# Altium footprint library 1210С.PcbLib: 1 footprints
Each footprint in its own frame and in the unit in brackets; x right, y up, seen from the top. Pads: shape width x height; smd on the part's side, far side on the other; paste and mask are expansions set on the pad; w line width, h text height; cw(c..) or ccw(c..) is an arc to the next point about the centre after c.
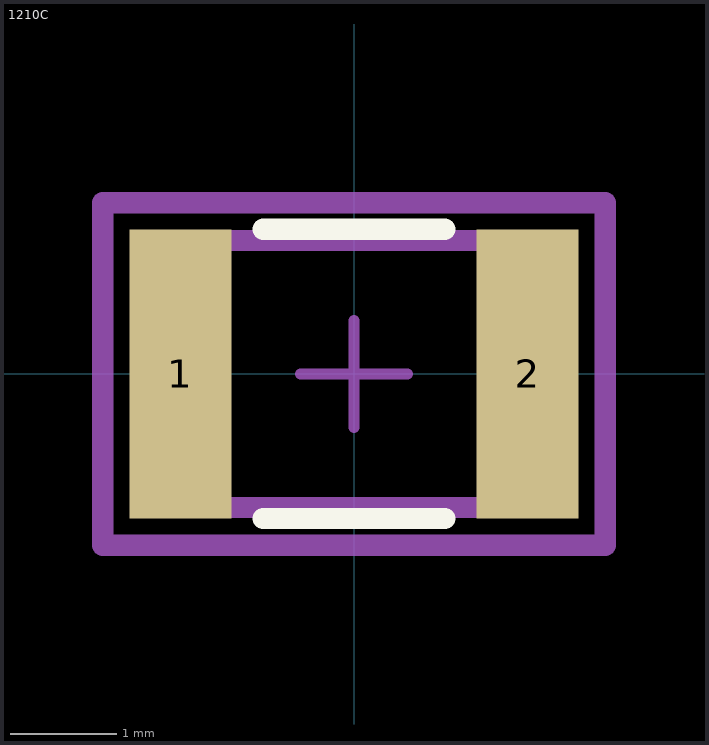
[diagram p0: the footprint, top view; thin cyan lines are the x and y axes]

## 1210С [mm]
pads (2):
  rect 0.954x2.706 smd paste+0 mask+0: 1(-1.625,0) 2(1.625,0)
Top Overlay:
  lines w0.2: -0.848,-1.353 0.848,-1.353 ; -0.848,1.353 0.848,1.353
Mechanical 5:
  lines w0.2: -2.352,-1.603 -2.352,1.603 2.352,1.603 2.352,-1.603 -2.352,-1.603
  text ".Designator" at 0,0.188 h1
Mechanical 13:
  lines w0.2: -1.6,-1.25 -1.6,1.25 1.6,1.25 1.6,-1.25 -1.6,-1.25
Mechanical 15:
  lines w0.2: -2.352,-1.603 -2.352,1.603 2.352,1.603 2.352,-1.603 -2.352,-1.603
Mechanical 16:
  lines w0.1: -0.5,0 0.5,0 ; 0,-0.5 0,0.5
3D body "Cap_Murata_GRM32ER60J107ME20L_eec.STEP": height 0.25, standoff 0, extent -2.352,-1.603 2.352,1.603